# Altium schematic symbol library AccBottom.SchLib: 8 symbols
Pins are listed as number, name and electrical type; pins without a type are passive.

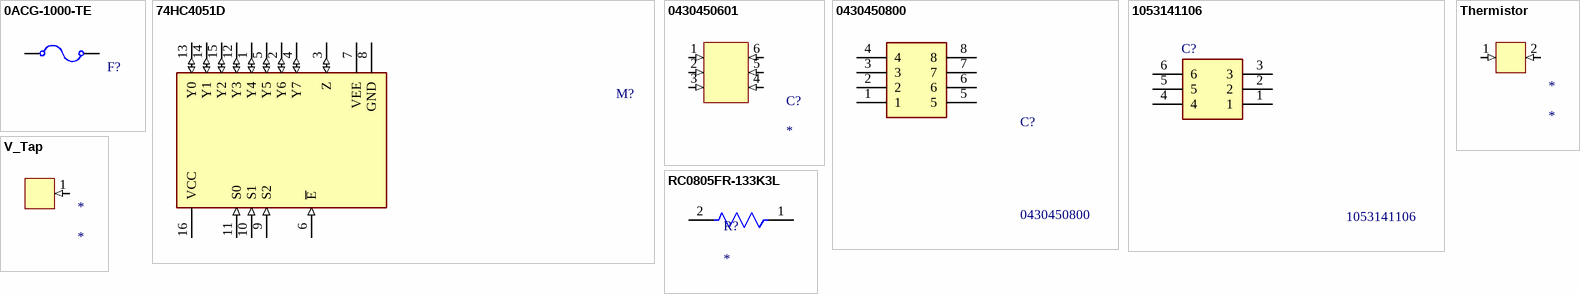
[diagram p0: symbols 0ACG-1000-TE to V_Tap]

## 0ACG-1000-TE
designator F?
Electric Fuse, 1A, 350VAC, 500VDC, 100A (IR), Surface Mount; Manufacturer: Bel; Manufacturer Part Number: 0ACG-1000-TE; Supplier: Newark; Supplier Part Number: 71AJ7068; RoHS: Yes; Category: Fuses; Stock: 965; Pricing: 1=3.46000, 10=3.34000, 25=2.98000, 50=2.62000, 100=2.14000, 250=2.08000 (USD)
footprint Fuse
pins: 1 PB6, 2 PB6

## 74HC4051D
designator M?, comment 74HC4051D,653  (value not drawn)
IC MUX/DEMUX 8X1 16SOIC
footprint 8x1MUX
pins: 1 Y4 (io), 2 Y6 (io), 3 Z (io), 4 Y7 (io), 5 Y5 (io), 6 ~{E} (in), 7 VEE (power), 8 GND (power), 9 S2 (in), 10 S1 (in), 11 S0 (in), 12 Y3 (io), 13 Y0 (io), 14 Y1 (io), 15 Y2 (io), 16 VCC (power)

## 0430450601
designator C?
Connector Wire to Board Header 6 Position 3 mm Solder Right Angle Thru-Hole Micro-Fit 3.0™; Manufacturer: Sullins; Manufacturer Part Number: PPPC032LJBN-RC; Color: Black; Number of Positions: 6; Pitch: 0.1inch; Supplier: Digi-Key; Supplier Part Number: S5556-ND; RoHS: Yes; Category: Connectors; Stock: 1878; Pricing: 1=0.87000, 10=0.73600, 100=0.66130, 500=0.54108, 1000=0.48096, 5000=0.43420 (USD); Mounting Technology: Through Hole; Contact Plating: Gold; Contact Material: Bronze; Housing Color: Black; Housing Material: Plastic; Package Quantity: 1000; Number of Rows: 2; Packaging: Bulk; Termination: Solder; Connector Type: Header; Contact Type: Female Socket; Length: 8.12mm; Width: 8.5mm; Height: 5mm; Row Spacing: 0.1inch; Lead Free: Lead Free; RoHS Compliant: Yes; ComponentLink1URL: https://drawings-pdf.s3.amazonaws.com/10494.pdf?src-supplier=Digi-Key; ComponentLink1Description: https://drawings-pdf.s3.amazonaws.com/10494.pdf?src-supplier=Digi-Key; ComponentLink2URL: http://www.farnell.com/datasheets/2696385.pdf?src-supplier=Farnell; ComponentLink2Description: http://www.farnell.com/datasheets/2696385.pdf?src-supplier=Farnell; ComponentLink3URL: http://www.farnell.com/datasheets/2696385.pdf?src-supplier=Newark; ComponentLink3Description: http://www.farnell.com/datasheets/2696385.pdf?src-supplier=Newark; ComponentLink4URL: http://www.farnell.com/datasheets/2696385.pdf?src-supplier=Element14; ComponentLink4Description: http://www.farnell.com/datasheets/2696385.pdf?src-supplier=Element14
footprint 6 Pin Dual Connector
pins: 1 (in), 2 (in), 3 (in), 4 (in), 5 (in), 6 (in)

## 0430450800
designator C?
Micro-Fit (3.0) dual row, right angle, thru hole header; Manufacturer_Name: Molex; Manufacturer_Part_Number: 0430450800; Mouser Part Number: N/A; Mouser Price/Stock: https://www.mouser.co.uk/ProductDetail/Molex/0430450800?qs=PBcRNPEHKsoGHBzIT0cB6w%3D%3D; Arrow Part Number: 0430450800; Arrow Price/Stock: https://www.arrow.com/en/products/0430450800/molex; Datasheet Link: http://www.molex.com/pdm_docs/sd/430450800_sd.pdf
footprint 8 Pin Dual
pins: 1, 2, 3, 4, 5, 6, 7, 8

## 1053141106
designator C?
Nano-Fit Right-Angle Header, Through Hole, 2.50mm Pitch, Dual Row, 6 Circuits, Glow-Wire Capable, Tray; Manufacturer_Name: Molex; Geometry.Height: 9.14mm; Manufacturer_Part_Number: 1053141106; Mouser Part Number: *; Mouser Price/Stock: *; Arrow Part Number: 1053141106; Arrow Price/Stock: https://www.arrow.com/en/products/1053141106/molex?region=europe; Datasheet Link: https://www.molex.com/pdm_docs/sd/1053141104_sd.pdf
footprint 6 Pin Dual Nano
pins: 1, 2, 3, 4, 5, 6

## RC0805FR-133K3L
designator R?
Fixed Resistor, Metal Glaze/thick Film, 0.125W, 3300ohm, 150V, 1% +/-Tol, 100ppm/Cel, Surface Mount, 0805; Manufacturer: KOA Speer; Manufacturer Part Number: RK73G2ATTD3301F; Resistance: 3.3kR; Power Rating: 125mW; Temperature Coefficient: 50ppm/°C; Additional Feature: HIGH PRECISION; Rated Temperature: 70°C; Value: 3.3kR; Package Height: 0.5mm; Package Length: 2mm; Package Width: 1.25mm; Reference Standard: AEC-Q200; Construction: Rectangular; Length: 2mm; Termination: SMD/SMT; Military Standard: Not; Series: RK73G; Case/Package: 0805; Depth: 1.25mm; Voltage Rating: 150V; Packaging: Tape and Reel; Case Code (Imperial): 0805; Max Operating Temperature: 125°C; Tolerance: 1%; Case Code (Metric): 2012; Resistor Type: Thick Film; Min Operating Temperature: -55°C; RoHS Compliant: Yes; Supplier: Arrow Electronics; Supplier Part Number: RK73G2ATTD3301F; RoHS: Yes; Category: Chip SMD Resistors; Stock: 4469; Pricing: 1=0.2602, 10=0.219, 25=0.2168, 100=0.0859, 250=0.0829, 500=0.0771, 1000=0.0463, 3000=0.0331 (USD); Mounting Technology: Surface Mount; Pins: 2; Terminal Finish: Nickel; JESD-609 Code: e3; Package Style: SMTMeter; Power: 125mW; Technology: THICK FILM/METAL GLAZE; Working Voltage: 150V; Reach SVHC Compliant: Yes; ComponentLink1URL: https://datasheet.ciiva.com:443/pdfs/VipMasterIC/IC/KOAS/KOAS-S-A0009827357/KOAS-S-A0009827357-1.pdf?src-supplier=IHS+Markit; ComponentLink1Description: https://datasheet.ciiva.com:443/pdfs/VipMasterIC/IC/KOAS/KOAS-S-A0009827357/KOAS-S-A0009827357-1.pdf?src-supplier=IHS+Markit; ComponentLink2URL: https://datasheet.ciiva.com/5554/rk73g-5554844.pdf?src-supplier=Mouser; ComponentLink2Description: https://datasheet.ciiva.com/5554/rk73g-5554844.pdf?src-supplier=Mouser; Package Shape: Rectangular; ComponentLink3URL: https://datasheet.ciiva.com:443/pdfs/VipMasterIC/IC/YAGO/YAGO-S-A0008145938/YAGO-S-A0008145938-1.pdf?src-supplier=IHS+Markit; ComponentLink3Description: https://datasheet.ciiva.com:443/pdfs/VipMasterIC/IC/YAGO/YAGO-S-A0008145938/YAGO-S-A0008145938-1.pdf?src-supplier=IHS+Markit; ComponentLink4URL: http://www.mouser.com/ds/2/447/Yageo_08112016_RC0805-968729.pdf?src-supplier=Mouser; ComponentLink4Description: http://www.mouser.com/ds/2/447/Yageo_08112016_RC0805-968729.pdf?src-supplier=Mouser; ComponentLink5URL: http://www.yageo.com/pdf/PYu-RC0805_51_RoHS_L_4.pdf?src-supplier=Avnet; ComponentLink5Description: http://www.yageo.com/pdf/PYu-RC0805_51_RoHS_L_4.pdf?src-supplier=Avnet; Supplier 1: Future Electronics; Supplier Part Number 1: 3067720
footprint 3.3kRes
pins: 1, 2

## Thermistor
designator *  (no BOM)
footprint THERMISTOR
pins: 1 (in), 2 (in)

## V_Tap
designator *  (no BOM)
footprint Voltage tap
pins: 1 (in)